# Altium integrated library Analog Devices Data Converters Analog-to-Digital Converters.IntLib: 2400 symbols (part 60 of 338)
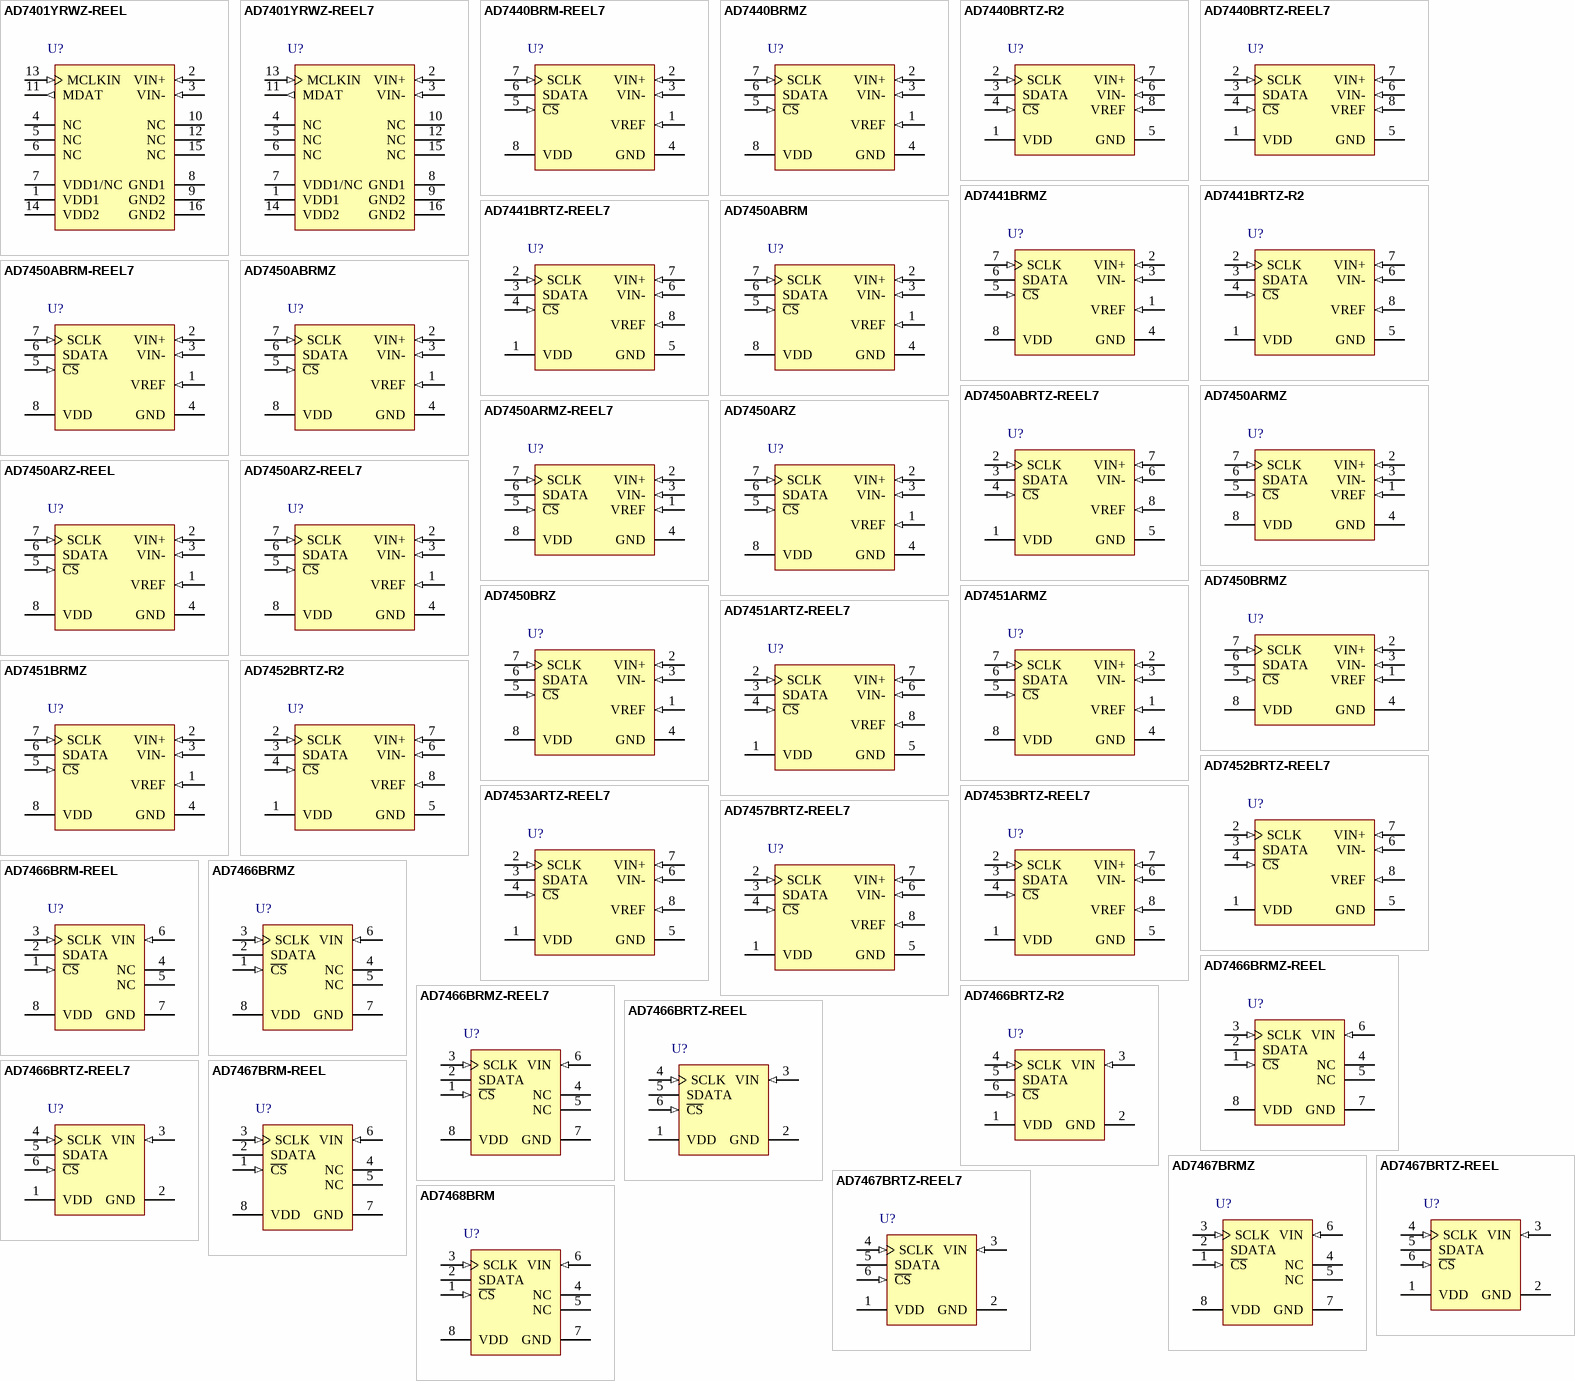
[diagram p189: symbols AD7401YRWZ-REEL to AD7468BRM]

## AD7468BRM
designator U?
Single 8-Bit Analog-to-Digital Converter with Serial, SPI Interface, 200KSPS, 0 to +70 degC, RM-8, Tube; Part Number: AD7468; Manufacturer: Analog Devices; Resolution (Bits): 8; Channels: 1; Throughput Rate (SPS): 200K; Interface: Ser, SPI; DatasheetVersion: Rev.C; PackageVersion: Aug-2005; PackageReference: RM-8; PackageDescription: 8-Lead Mini Small Outline Package [MSOP]; RoHS: N; Packing: Tube; Mounting Technology: Surface Mount; Code_JEDEC: MO-187-AA; ComponentLink1Description: Manufacturer URL; ComponentLink1URL: http://www.analog.com/en/index.html; ComponentLink2Description: Datasheet; ComponentLink2URL: http://www.analog.com/static/imported-files/data_sheets/AD7466_7467_7468.pdf; ComponentLink3Description: Package Specification; ComponentLink3URL: http://www.analog.com/static/imported-files/packages/PKG_PDF/MSOP%28RM%29/RM_8.pdf; ComponentLink4Description: Product URL; ComponentLink4URL: http://www.analog.com/en/analog-to-digital-converters/ad-converters/ad7468/products/product.html
footprint RM-8_N (TSOP, 8-Leads, Body 3x3mm, Pitch 0.65mm, IPC Medium Density)
footprint RM-8_L (TSOP, 8-Leads, Body 3x3mm, Pitch 0.65mm, IPC High Density)
footprint RM-8_M (TSOP, 8-Leads, Body 3x3mm, Pitch 0.65mm, IPC Low Density)
pins: 1 ~{CS} (in) "Chip Select. Active low logic input. This input provides the dual function of initiating conversions on the devices and frames the serial data transfer.", 2 SDATA (hiz) "Data Out. Logic output. The conversion result from the AD7466/AD7467/AD7468 is provided on this output as a serial data stream. The bits are clocked out on the falling edge of the SCLK input. The data stream from the AD7466 (See Datasheet)", 3 SCLK (in) "Serial Clock. Logic input. SCLK provides the serial clock for accessing data from the parts. This clock input is also used as the clock source for the conversion process of the parts.", 4 NC "No Connect.", 5 NC "No Connect.", 6 VIN (in) "Analog Input. Single-ended analog input channel. The input range is 0 V to VDD.", 7 GND (power) "Analog Ground. Ground reference point for all circuitry on the devices. All analog input signals should be referred to this GND voltage.", 8 VDD (power) "Power Supply Input. The VDD range for the devices is from 1.6 V to 3.6 V."

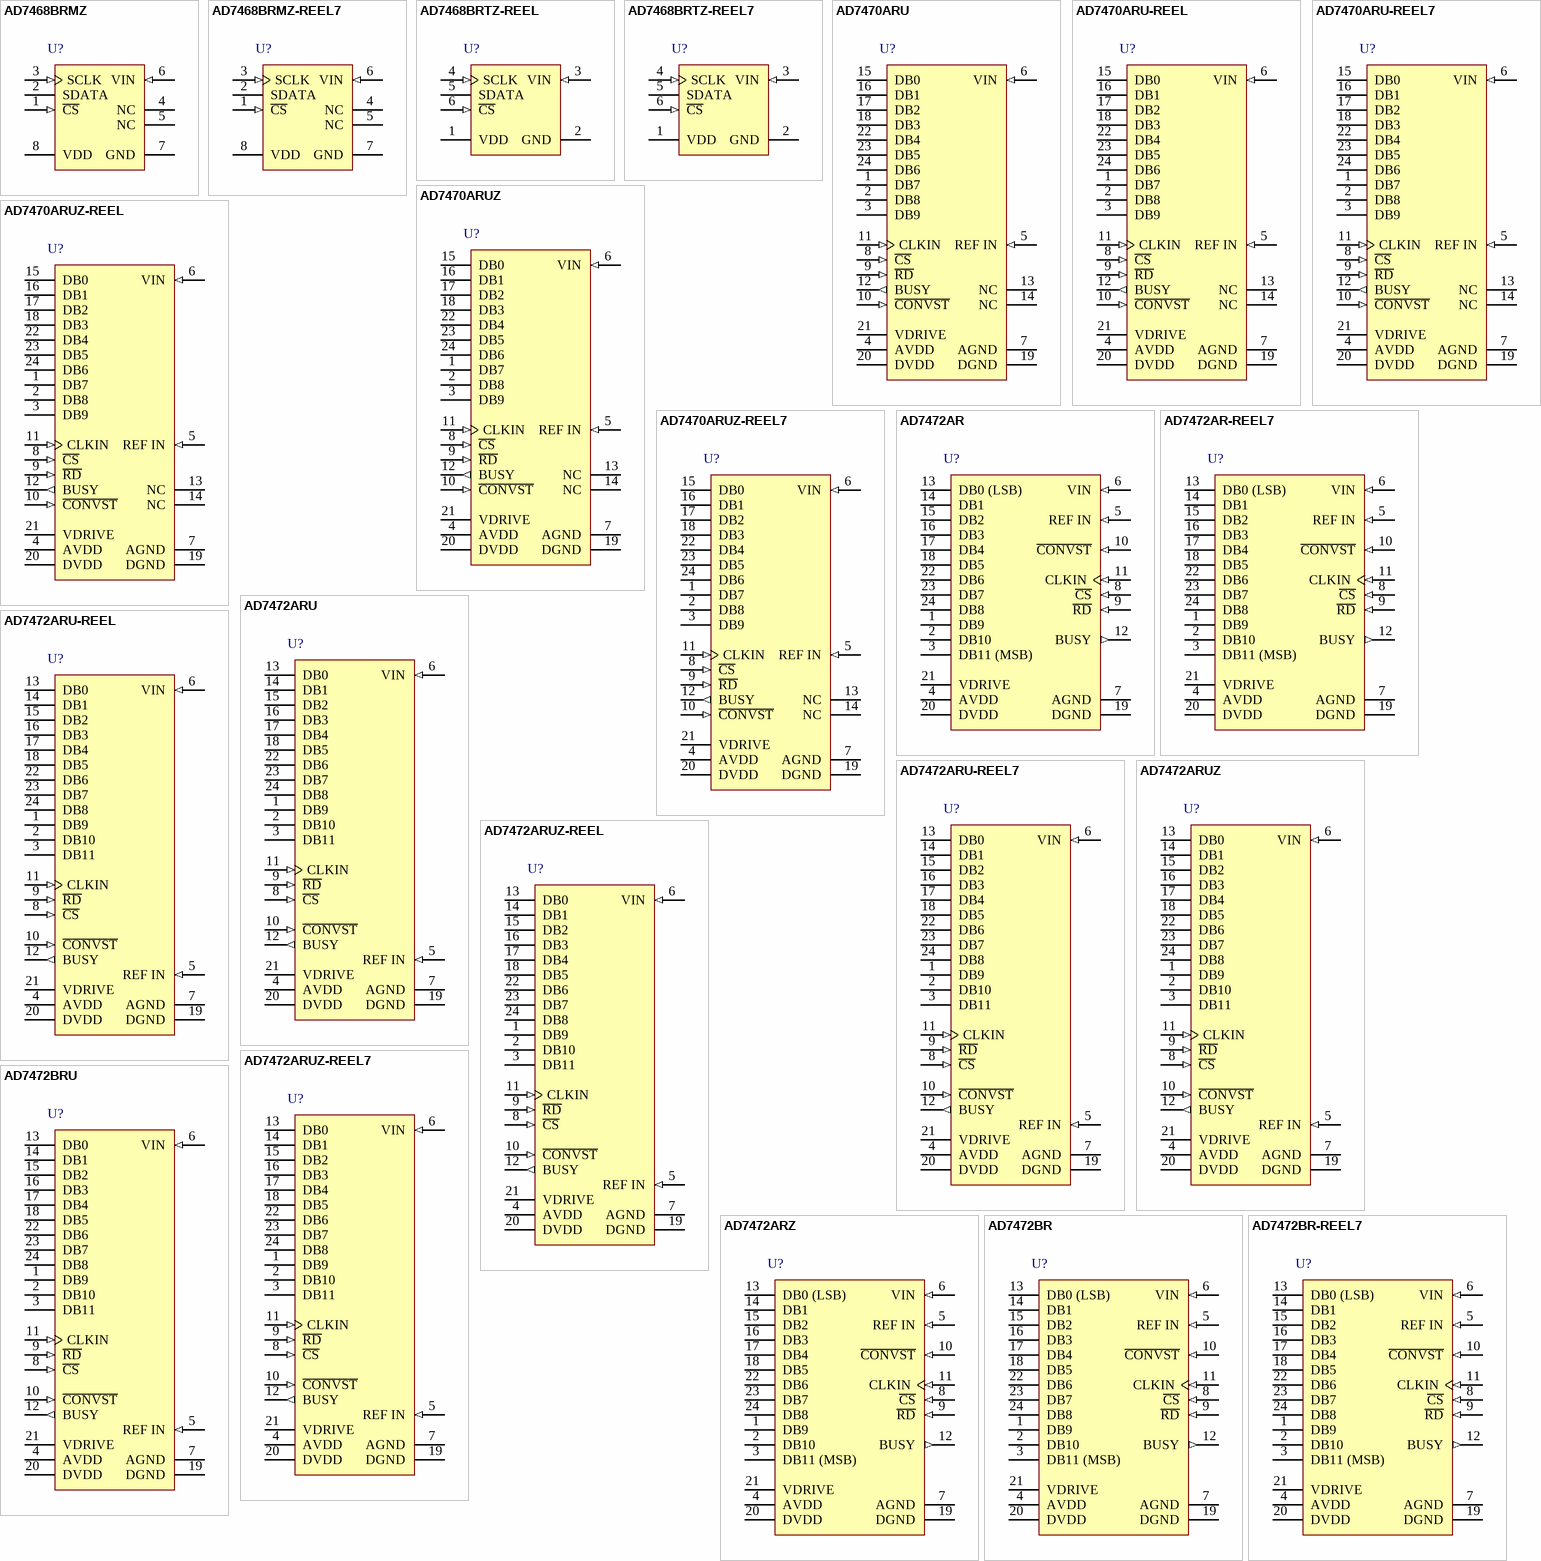
[diagram p23: symbols AD7468BRMZ to AD7472BRU]

## AD7468BRMZ
designator U?
Single 8-Bit Analog-to-Digital Converter with Serial, SPI Interface, 200KSPS, 0 to +70 degC, RM-8, Pb-Free, Tube; Part Number: AD7468; Manufacturer: Analog Devices; Resolution (Bits): 8; Channels: 1; Throughput Rate (SPS): 200K; Interface: Ser, SPI; DatasheetVersion: Rev.C; PackageVersion: Aug-2005; PackageReference: RM-8; PackageDescription: 8-Lead Mini Small Outline Package [MSOP]; RoHS: Y; Packing: Tube; Mounting Technology: Surface Mount; Code_JEDEC: MO-187-AA; ComponentLink1Description: Manufacturer URL; ComponentLink1URL: http://www.analog.com/en/index.html; ComponentLink2Description: Datasheet; ComponentLink2URL: http://www.analog.com/static/imported-files/data_sheets/AD7466_7467_7468.pdf; ComponentLink3Description: Package Specification; ComponentLink3URL: http://www.analog.com/static/imported-files/packages/PKG_PDF/MSOP%28RM%29/RM_8.pdf; ComponentLink4Description: Product URL; ComponentLink4URL: http://www.analog.com/en/analog-to-digital-converters/ad-converters/ad7468/products/product.html
footprint RM-8_N (TSOP, 8-Leads, Body 3x3mm, Pitch 0.65mm, IPC Medium Density)
footprint RM-8_L (TSOP, 8-Leads, Body 3x3mm, Pitch 0.65mm, IPC High Density)
footprint RM-8_M (TSOP, 8-Leads, Body 3x3mm, Pitch 0.65mm, IPC Low Density)
pins: 1 ~{CS} (in) "Chip Select. Active low logic input. This input provides the dual function of initiating conversions on the devices and frames the serial data transfer.", 2 SDATA (hiz) "Data Out. Logic output. The conversion result from the AD7466/AD7467/AD7468 is provided on this output as a serial data stream. The bits are clocked out on the falling edge of the SCLK input. The data stream from the AD7466 (See Datasheet)", 3 SCLK (in) "Serial Clock. Logic input. SCLK provides the serial clock for accessing data from the parts. This clock input is also used as the clock source for the conversion process of the parts.", 4 NC "No Connect.", 5 NC "No Connect.", 6 VIN (in) "Analog Input. Single-ended analog input channel. The input range is 0 V to VDD.", 7 GND (power) "Analog Ground. Ground reference point for all circuitry on the devices. All analog input signals should be referred to this GND voltage.", 8 VDD (power) "Power Supply Input. The VDD range for the devices is from 1.6 V to 3.6 V."

## AD7468BRMZ-REEL7
designator U?
Single 8-Bit Analog-to-Digital Converter with Serial, SPI Interface, 200KSPS, 0 to +70 degC, RM-8, Pb-Free, Reel; Part Number: AD7468; Manufacturer: Analog Devices; Resolution (Bits): 8; Channels: 1; Throughput Rate (SPS): 200K; Interface: Ser, SPI; DatasheetVersion: Rev.C; PackageVersion: Aug-2005; PackageReference: RM-8; PackageDescription: 8-Lead Mini Small Outline Package [MSOP]; RoHS: Y; Packing: Reel; Mounting Technology: Surface Mount; Code_JEDEC: MO-187-AA; ComponentLink1Description: Manufacturer URL; ComponentLink1URL: http://www.analog.com/en/index.html; ComponentLink2Description: Datasheet; ComponentLink2URL: http://www.analog.com/static/imported-files/data_sheets/AD7466_7467_7468.pdf; ComponentLink3Description: Package Specification; ComponentLink3URL: http://www.analog.com/static/imported-files/packages/PKG_PDF/MSOP%28RM%29/RM_8.pdf; ComponentLink4Description: Product URL; ComponentLink4URL: http://www.analog.com/en/analog-to-digital-converters/ad-converters/ad7468/products/product.html
footprint RM-8_N (TSOP, 8-Leads, Body 3x3mm, Pitch 0.65mm, IPC Medium Density)
footprint RM-8_L (TSOP, 8-Leads, Body 3x3mm, Pitch 0.65mm, IPC High Density)
footprint RM-8_M (TSOP, 8-Leads, Body 3x3mm, Pitch 0.65mm, IPC Low Density)
pins: 1 ~{CS} (in) "Chip Select. Active low logic input. This input provides the dual function of initiating conversions on the devices and frames the serial data transfer.", 2 SDATA (hiz) "Data Out. Logic output. The conversion result from the AD7466/AD7467/AD7468 is provided on this output as a serial data stream. The bits are clocked out on the falling edge of the SCLK input. The data stream from the AD7466 (See Datasheet)", 3 SCLK (in) "Serial Clock. Logic input. SCLK provides the serial clock for accessing data from the parts. This clock input is also used as the clock source for the conversion process of the parts.", 4 NC "No Connect.", 5 NC "No Connect.", 6 VIN (in) "Analog Input. Single-ended analog input channel. The input range is 0 V to VDD.", 7 GND (power) "Analog Ground. Ground reference point for all circuitry on the devices. All analog input signals should be referred to this GND voltage.", 8 VDD (power) "Power Supply Input. The VDD range for the devices is from 1.6 V to 3.6 V."

## AD7468BRTZ-REEL
designator U?
Single 8-Bit Analog-to-Digital Converter with Serial, SPI Interface, 200KSPS, 0 to +70 degC, RJ-6, Pb-Free, Reel; Part Number: AD7468; Manufacturer: Analog Devices; Resolution (Bits): 8; Channels: 1; Throughput Rate (SPS): 200K; Interface: Ser, SPI; DatasheetVersion: Rev.C; PackageVersion: 121608-A; PackageReference: RJ-6; PackageDescription: 6-Lead Small Outline Transistor Package [SOT-23]; RoHS: Y; Packing: Reel; Mounting Technology: Surface Mount; Code_JEDEC: MO-178-AB; ComponentLink1Description: Manufacturer URL; ComponentLink1URL: http://www.analog.com/en/index.html; ComponentLink2Description: Datasheet; ComponentLink2URL: http://www.analog.com/static/imported-files/data_sheets/AD7466_7467_7468.pdf; ComponentLink3Description: Package Specification; ComponentLink3URL: http://www.analog.com/static/imported-files/packages/PKG_PDF/SOT-23(RJ)/RJ_6.pdf; ComponentLink4Description: Product URL; ComponentLink4URL: http://www.analog.com/en/analog-to-digital-converters/ad-converters/ad7468/products/product.html
footprint RJ-6_N (SOT23, 6-Leads, Body 2.9x1.6mm, Pitch 0.95mm, Lead Span 2.8mm, IPC Medium Density)
footprint RJ-6_L (SOT23, 6-Leads, Body 2.9x1.6mm, Pitch 0.95mm, Lead Span 2.8mm, IPC High Density)
footprint RJ-6_M (SOT23, 6-Leads, Body 2.9x1.6mm, Pitch 0.95mm, Lead Span 2.8mm, IPC Low Density)
pins: 1 VDD (power) "Power Supply Input. The VDD range for the AD7276/AD7277/AD7278 is 2.35 V to 3.6 V.", 2 GND (power) "Analog Ground. Ground reference point for all circuitry on the AD7276/AD7277/AD7278. All analog input signals should be referred to this GND voltage.", 3 VIN (in) "Analog Input. Single-ended analog input channel. The input range is 0 V to VDD.", 4 SCLK (in) "Serial Clock. Logic input. SCLK provides the serial clock for accessing data from the part. This clock input is also used as the clock source for the conversion process of the AD7276/AD7277/AD7278.", 5 SDATA (hiz) "Data Out. Logic output. The conversion result from the AD7276/AD7277/AD7278 is provided on this output as a serial data stream. The bits are clocked out on the falling edge of the SCLK input. The data stream from the AD7276 (See Datasheet)", 6 ~{CS} (in) "Chip Select. Active low logic input. This input provides the dual function of initiating conversion on the AD7276/AD7277/AD7278 and framing the serial data transfer."

## AD7468BRTZ-REEL7
designator U?
Single 8-Bit Analog-to-Digital Converter with Serial, SPI Interface, 200KSPS, 0 to +70 degC, RJ-6, Pb-Free, Reel; Part Number: AD7468; Manufacturer: Analog Devices; Resolution (Bits): 8; Channels: 1; Throughput Rate (SPS): 200K; Interface: Ser, SPI; DatasheetVersion: Rev.C; PackageVersion: 121608-A; PackageReference: RJ-6; PackageDescription: 6-Lead Small Outline Transistor Package [SOT-23]; RoHS: Y; Packing: Reel; Mounting Technology: Surface Mount; Code_JEDEC: MO-178-AB; ComponentLink1Description: Manufacturer URL; ComponentLink1URL: http://www.analog.com/en/index.html; ComponentLink2Description: Datasheet; ComponentLink2URL: http://www.analog.com/static/imported-files/data_sheets/AD7466_7467_7468.pdf; ComponentLink3Description: Package Specification; ComponentLink3URL: http://www.analog.com/static/imported-files/packages/PKG_PDF/SOT-23(RJ)/RJ_6.pdf; ComponentLink4Description: Product URL; ComponentLink4URL: http://www.analog.com/en/analog-to-digital-converters/ad-converters/ad7468/products/product.html
footprint RJ-6_N (SOT23, 6-Leads, Body 2.9x1.6mm, Pitch 0.95mm, Lead Span 2.8mm, IPC Medium Density)
footprint RJ-6_L (SOT23, 6-Leads, Body 2.9x1.6mm, Pitch 0.95mm, Lead Span 2.8mm, IPC High Density)
footprint RJ-6_M (SOT23, 6-Leads, Body 2.9x1.6mm, Pitch 0.95mm, Lead Span 2.8mm, IPC Low Density)
pins: 1 VDD (power) "Power Supply Input. The VDD range for the AD7276/AD7277/AD7278 is 2.35 V to 3.6 V.", 2 GND (power) "Analog Ground. Ground reference point for all circuitry on the AD7276/AD7277/AD7278. All analog input signals should be referred to this GND voltage.", 3 VIN (in) "Analog Input. Single-ended analog input channel. The input range is 0 V to VDD.", 4 SCLK (in) "Serial Clock. Logic input. SCLK provides the serial clock for accessing data from the part. This clock input is also used as the clock source for the conversion process of the AD7276/AD7277/AD7278.", 5 SDATA (hiz) "Data Out. Logic output. The conversion result from the AD7276/AD7277/AD7278 is provided on this output as a serial data stream. The bits are clocked out on the falling edge of the SCLK input. The data stream from the AD7276 (See Datasheet)", 6 ~{CS} (in) "Chip Select. Active low logic input. This input provides the dual function of initiating conversion on the AD7276/AD7277/AD7278 and framing the serial data transfer."

## AD7470ARU
designator U?
Single 10-Bit Analog-to-Digital Converter with Parallel Interface, 4 mW, 1.75MSPS, -40 to +85 degC, RU-24, Tube; Part Number: AD7470; Manufacturer: Analog Devices; Resolution (Bits): 10; Channels: 1; Throughput Rate (SPS): 1.75M; Interface: Par; DatasheetVersion: Rev.B; PackageVersion: 2002; PackageReference: RU-24; PackageDescription: 24-Lead Thin Shrink Small Outline Package [TSSOP]; RoHS: N; Packing: Tube; Mounting Technology: Surface Mount; Code_JEDEC: MO-153-AD; ComponentLink1Description: Manufacturer URL; ComponentLink1URL: http://www.analog.com/en/index.html; ComponentLink2Description: Datasheet; ComponentLink2URL: http://www.analog.com/static/imported-files/data_sheets/AD7470_7472.pdf; ComponentLink3Description: Package Specification; ComponentLink3URL: http://www.analog.com/static/imported-files/packages/380523655245964505593671154107510036154RU24.pdf; ComponentLink4Description: Product URL; ComponentLink4URL: http://www.analog.com/en/analog-to-digital-converters/ad-converters/ad7470/products/product.html
footprint RU-24_N (TSOP, 24-Leads, Body 7.8x4.4mm, Pitch 0.65mm, IPC Medium Density)
footprint RU-24_L (TSOP, 24-Leads, Body 7.8x4.4mm, Pitch 0.65mm, IPC High Density)
footprint RU-24_M (TSOP, 24-Leads, Body 7.8x4.4mm, Pitch 0.65mm, IPC Low Density)
pins: 1 DB7 (hiz) "Parallel digital outputs that provide the conversion result for the part. These are three-state outputs that are controlled by C\S\ and R\D\. The output high voltage level for these outputs is determined by the VDRIVE input.", 2 DB8 (hiz) "Parallel digital outputs that provide the conversion result for the part. These are three-state outputs that are controlled by C\S\ and R\D\. The output high voltage level for these outputs is determined by the VDRIVE input.", 3 DB9 (hiz) "Parallel digital outputs that provide the conversion result for the part. These are three-state outputs that are controlled by C\S\ and R\D\. The output high voltage level for these outputs is determined by the VDRIVE input.", 4 AVDD (power) "Analog Supply Voltage, 2.7 V to 5.25 V. This is the only supply voltage for all analog circuitry on the AD7472. The AVDD and DVDD voltages should ideally be at the same potential and must not be more than 0.3 V apart even on (See Datasheet)", 5 REF IN (in) "Reference Input. An external reference must be applied to this input. The voltage range for the external reference is 2.5 V +/-1% for specified performance.", 6 VIN (in) "Analog Input. Single-ended analog input channel. The input range is 0 V to REF IN. The analog input presents a high dc input impedance.", 7 AGND (power) "Analog Ground. Ground reference point for all analog circuitry on the AD7470/AD7472. All analog input signals and any external reference signal should be referred to this AGND voltage. The AGND and DGND voltages should (See Datasheet)", 8 ~{CS} (in) "Chip Select. Active low logic input used in conjunction with R\D\ to access the conversion result. The conversion result is placed on the data bus following the falling edge of both C\S\ and R\D\. C\S\ and R\D\ are both (See Datasheet)", 9 ~{RD} (in) "Read Input. Logic input used in conjunction with C\S\ to access the conversion result. The conversion result is placed on the data bus following the falling edge of both C\S\ and R\D\. C\S\ and R\D\ are both connected to (See Datasheet)", 10 ~{CONVST} (in) "Conversion Start Input. Logic input used to initiate conversion. The input track-and-hold amplifier goes from track mode to hold mode on the falling edge of C\O\N\V\S\T\, and the conversion process is initiated at this point.(See Datasheet)", 11 CLKIN (in) "Master Clock Input. The clock source for the conversion process is applied to this pin. Conversion time for the AD7472 takes 14 clock cycles, and conversion time for the AD7470 takes 12 clock cycles. The frequency of this (See Datasheet)", 12 BUSY (out) "BUSY Output. Logic output indicating the status of the conversion process. The BUSY signal goes high after the falling edge of C\O\N\V\S\T\ and stays high for the duration of conversion. Once conversion is complete and the (See Datasheet)", 13 NC "No connect", 14 NC "No connect", 15 DB0 (hiz) "Parallel digital outputs that provide the conversion result for the part. These are three-state outputs that are controlled by C\S\ and R\D\. The output high voltage level for these outputs is determined by the VDRIVE input.", 16 DB1 (hiz) "Parallel digital outputs that provide the conversion result for the part. These are three-state outputs that are controlled by C\S\ and R\D\. The output high voltage level for these outputs is determined by the VDRIVE input.", 17 DB2 (hiz) "Parallel digital outputs that provide the conversion result for the part. These are three-state outputs that are controlled by C\S\ and R\D\. The output high voltage level for these outputs is determined by the VDRIVE input.", 18 DB3 (hiz) "Parallel digital outputs that provide the conversion result for the part. These are three-state outputs that are controlled by C\S\ and R\D\. The output high voltage level for these outputs is determined by the VDRIVE input.", 19 DGND (power) "Digital Ground. This is the ground reference point for all digital circuitry on the AD7470 and AD7472. The DGND and AGND voltages should ideally be at the same potential and must not be more than 0.3 V apart even on a (See Datasheet)", 20 DVDD (power) "Digital Supply Voltage, 2.7 V to 5.25 V. This is the supply voltage for all digital circuitry on the AD7470/ AD7472 aside from the output drivers. The DVDD and AVDD voltages should ideally be at the same potential and must (See Datasheet)", 21 VDRIVE (power) "Supply Voltage for the Output Drivers, 2.7 V to 5.25 V. This voltage determines the output high voltage for the data output pins. It allows AVDD and DVDD to operate at 5 V (and maximize the dynamic performance of the (ADC), (See Datasheet)", 22 DB4 (hiz) "Parallel digital outputs that provide the conversion result for the part. These are three-state outputs that are controlled by C\S\ and R\D\. The output high voltage level for these outputs is determined by the VDRIVE input.", 23 DB5 (hiz) "Parallel digital outputs that provide the conversion result for the part. These are three-state outputs that are controlled by C\S\ and R\D\. The output high voltage level for these outputs is determined by the VDRIVE input.", 24 DB6 (hiz) "Parallel digital outputs that provide the conversion result for the part. These are three-state outputs that are controlled by C\S\ and R\D\. The output high voltage level for these outputs is determined by the VDRIVE input."

## AD7470ARU-REEL
designator U?
Single 10-Bit Analog-to-Digital Converter with Parallel Interface, 4 mW, 1.75MSPS, -40 to +85 degC, RU-24, Reel; Part Number: AD7470; Manufacturer: Analog Devices; Resolution (Bits): 10; Channels: 1; Throughput Rate (SPS): 1.75M; Interface: Par; DatasheetVersion: Rev.B; PackageVersion: 2002; PackageReference: RU-24; PackageDescription: 24-Lead Thin Shrink Small Outline Package [TSSOP]; RoHS: N; Packing: Reel; Mounting Technology: Surface Mount; Code_JEDEC: MO-153-AD; ComponentLink1Description: Manufacturer URL; ComponentLink1URL: http://www.analog.com/en/index.html; ComponentLink2Description: Datasheet; ComponentLink2URL: http://www.analog.com/static/imported-files/data_sheets/AD7470_7472.pdf; ComponentLink3Description: Package Specification; ComponentLink3URL: http://www.analog.com/static/imported-files/packages/380523655245964505593671154107510036154RU24.pdf; ComponentLink4Description: Product URL; ComponentLink4URL: http://www.analog.com/en/analog-to-digital-converters/ad-converters/ad7470/products/product.html
footprint RU-24_N (TSOP, 24-Leads, Body 7.8x4.4mm, Pitch 0.65mm, IPC Medium Density)
footprint RU-24_L (TSOP, 24-Leads, Body 7.8x4.4mm, Pitch 0.65mm, IPC High Density)
footprint RU-24_M (TSOP, 24-Leads, Body 7.8x4.4mm, Pitch 0.65mm, IPC Low Density)
pins: 1 DB7 (hiz) "Parallel digital outputs that provide the conversion result for the part. These are three-state outputs that are controlled by C\S\ and R\D\. The output high voltage level for these outputs is determined by the VDRIVE input.", 2 DB8 (hiz) "Parallel digital outputs that provide the conversion result for the part. These are three-state outputs that are controlled by C\S\ and R\D\. The output high voltage level for these outputs is determined by the VDRIVE input.", 3 DB9 (hiz) "Parallel digital outputs that provide the conversion result for the part. These are three-state outputs that are controlled by C\S\ and R\D\. The output high voltage level for these outputs is determined by the VDRIVE input.", 4 AVDD (power) "Analog Supply Voltage, 2.7 V to 5.25 V. This is the only supply voltage for all analog circuitry on the AD7472. The AVDD and DVDD voltages should ideally be at the same potential and must not be more than 0.3 V apart even on (See Datasheet)", 5 REF IN (in) "Reference Input. An external reference must be applied to this input. The voltage range for the external reference is 2.5 V +/-1% for specified performance.", 6 VIN (in) "Analog Input. Single-ended analog input channel. The input range is 0 V to REF IN. The analog input presents a high dc input impedance.", 7 AGND (power) "Analog Ground. Ground reference point for all analog circuitry on the AD7470/AD7472. All analog input signals and any external reference signal should be referred to this AGND voltage. The AGND and DGND voltages should (See Datasheet)", 8 ~{CS} (in) "Chip Select. Active low logic input used in conjunction with R\D\ to access the conversion result. The conversion result is placed on the data bus following the falling edge of both C\S\ and R\D\. C\S\ and R\D\ are both (See Datasheet)", 9 ~{RD} (in) "Read Input. Logic input used in conjunction with C\S\ to access the conversion result. The conversion result is placed on the data bus following the falling edge of both C\S\ and R\D\. C\S\ and R\D\ are both connected to (See Datasheet)", 10 ~{CONVST} (in) "Conversion Start Input. Logic input used to initiate conversion. The input track-and-hold amplifier goes from track mode to hold mode on the falling edge of C\O\N\V\S\T\, and the conversion process is initiated at this point.(See Datasheet)", 11 CLKIN (in) "Master Clock Input. The clock source for the conversion process is applied to this pin. Conversion time for the AD7472 takes 14 clock cycles, and conversion time for the AD7470 takes 12 clock cycles. The frequency of this (See Datasheet)", 12 BUSY (out) "BUSY Output. Logic output indicating the status of the conversion process. The BUSY signal goes high after the falling edge of C\O\N\V\S\T\ and stays high for the duration of conversion. Once conversion is complete and the (See Datasheet)", 13 NC "No connect", 14 NC "No connect", 15 DB0 (hiz) "Parallel digital outputs that provide the conversion result for the part. These are three-state outputs that are controlled by C\S\ and R\D\. The output high voltage level for these outputs is determined by the VDRIVE input.", 16 DB1 (hiz) "Parallel digital outputs that provide the conversion result for the part. These are three-state outputs that are controlled by C\S\ and R\D\. The output high voltage level for these outputs is determined by the VDRIVE input.", 17 DB2 (hiz) "Parallel digital outputs that provide the conversion result for the part. These are three-state outputs that are controlled by C\S\ and R\D\. The output high voltage level for these outputs is determined by the VDRIVE input.", 18 DB3 (hiz) "Parallel digital outputs that provide the conversion result for the part. These are three-state outputs that are controlled by C\S\ and R\D\. The output high voltage level for these outputs is determined by the VDRIVE input.", 19 DGND (power) "Digital Ground. This is the ground reference point for all digital circuitry on the AD7470 and AD7472. The DGND and AGND voltages should ideally be at the same potential and must not be more than 0.3 V apart even on a (See Datasheet)", 20 DVDD (power) "Digital Supply Voltage, 2.7 V to 5.25 V. This is the supply voltage for all digital circuitry on the AD7470/ AD7472 aside from the output drivers. The DVDD and AVDD voltages should ideally be at the same potential and must (See Datasheet)", 21 VDRIVE (power) "Supply Voltage for the Output Drivers, 2.7 V to 5.25 V. This voltage determines the output high voltage for the data output pins. It allows AVDD and DVDD to operate at 5 V (and maximize the dynamic performance of the (ADC), (See Datasheet)", 22 DB4 (hiz) "Parallel digital outputs that provide the conversion result for the part. These are three-state outputs that are controlled by C\S\ and R\D\. The output high voltage level for these outputs is determined by the VDRIVE input.", 23 DB5 (hiz) "Parallel digital outputs that provide the conversion result for the part. These are three-state outputs that are controlled by C\S\ and R\D\. The output high voltage level for these outputs is determined by the VDRIVE input.", 24 DB6 (hiz) "Parallel digital outputs that provide the conversion result for the part. These are three-state outputs that are controlled by C\S\ and R\D\. The output high voltage level for these outputs is determined by the VDRIVE input."

## AD7470ARU-REEL7
designator U?
Single 10-Bit Analog-to-Digital Converter with Parallel Interface, 4 mW, 1.75MSPS, -40 to +85 degC, RU-24, Reel; Part Number: AD7470; Manufacturer: Analog Devices; Resolution (Bits): 10; Channels: 1; Throughput Rate (SPS): 1.75M; Interface: Par; DatasheetVersion: Rev.B; PackageVersion: 2002; PackageReference: RU-24; PackageDescription: 24-Lead Thin Shrink Small Outline Package [TSSOP]; RoHS: N; Packing: Reel; Mounting Technology: Surface Mount; Code_JEDEC: MO-153-AD; ComponentLink1Description: Manufacturer URL; ComponentLink1URL: http://www.analog.com/en/index.html; ComponentLink2Description: Datasheet; ComponentLink2URL: http://www.analog.com/static/imported-files/data_sheets/AD7470_7472.pdf; ComponentLink3Description: Package Specification; ComponentLink3URL: http://www.analog.com/static/imported-files/packages/380523655245964505593671154107510036154RU24.pdf; ComponentLink4Description: Product URL; ComponentLink4URL: http://www.analog.com/en/analog-to-digital-converters/ad-converters/ad7470/products/product.html
footprint RU-24_N (TSOP, 24-Leads, Body 7.8x4.4mm, Pitch 0.65mm, IPC Medium Density)
footprint RU-24_L (TSOP, 24-Leads, Body 7.8x4.4mm, Pitch 0.65mm, IPC High Density)
footprint RU-24_M (TSOP, 24-Leads, Body 7.8x4.4mm, Pitch 0.65mm, IPC Low Density)
pins: 1 DB7 (hiz) "Parallel digital outputs that provide the conversion result for the part. These are three-state outputs that are controlled by C\S\ and R\D\. The output high voltage level for these outputs is determined by the VDRIVE input.", 2 DB8 (hiz) "Parallel digital outputs that provide the conversion result for the part. These are three-state outputs that are controlled by C\S\ and R\D\. The output high voltage level for these outputs is determined by the VDRIVE input.", 3 DB9 (hiz) "Parallel digital outputs that provide the conversion result for the part. These are three-state outputs that are controlled by C\S\ and R\D\. The output high voltage level for these outputs is determined by the VDRIVE input.", 4 AVDD (power) "Analog Supply Voltage, 2.7 V to 5.25 V. This is the only supply voltage for all analog circuitry on the AD7472. The AVDD and DVDD voltages should ideally be at the same potential and must not be more than 0.3 V apart even on (See Datasheet)", 5 REF IN (in) "Reference Input. An external reference must be applied to this input. The voltage range for the external reference is 2.5 V +/-1% for specified performance.", 6 VIN (in) "Analog Input. Single-ended analog input channel. The input range is 0 V to REF IN. The analog input presents a high dc input impedance.", 7 AGND (power) "Analog Ground. Ground reference point for all analog circuitry on the AD7470/AD7472. All analog input signals and any external reference signal should be referred to this AGND voltage. The AGND and DGND voltages should (See Datasheet)", 8 ~{CS} (in) "Chip Select. Active low logic input used in conjunction with R\D\ to access the conversion result. The conversion result is placed on the data bus following the falling edge of both C\S\ and R\D\. C\S\ and R\D\ are both (See Datasheet)", 9 ~{RD} (in) "Read Input. Logic input used in conjunction with C\S\ to access the conversion result. The conversion result is placed on the data bus following the falling edge of both C\S\ and R\D\. C\S\ and R\D\ are both connected to (See Datasheet)", 10 ~{CONVST} (in) "Conversion Start Input. Logic input used to initiate conversion. The input track-and-hold amplifier goes from track mode to hold mode on the falling edge of C\O\N\V\S\T\, and the conversion process is initiated at this point.(See Datasheet)", 11 CLKIN (in) "Master Clock Input. The clock source for the conversion process is applied to this pin. Conversion time for the AD7472 takes 14 clock cycles, and conversion time for the AD7470 takes 12 clock cycles. The frequency of this (See Datasheet)", 12 BUSY (out) "BUSY Output. Logic output indicating the status of the conversion process. The BUSY signal goes high after the falling edge of C\O\N\V\S\T\ and stays high for the duration of conversion. Once conversion is complete and the (See Datasheet)", 13 NC "No connect", 14 NC "No connect", 15 DB0 (hiz) "Parallel digital outputs that provide the conversion result for the part. These are three-state outputs that are controlled by C\S\ and R\D\. The output high voltage level for these outputs is determined by the VDRIVE input.", 16 DB1 (hiz) "Parallel digital outputs that provide the conversion result for the part. These are three-state outputs that are controlled by C\S\ and R\D\. The output high voltage level for these outputs is determined by the VDRIVE input.", 17 DB2 (hiz) "Parallel digital outputs that provide the conversion result for the part. These are three-state outputs that are controlled by C\S\ and R\D\. The output high voltage level for these outputs is determined by the VDRIVE input.", 18 DB3 (hiz) "Parallel digital outputs that provide the conversion result for the part. These are three-state outputs that are controlled by C\S\ and R\D\. The output high voltage level for these outputs is determined by the VDRIVE input.", 19 DGND (power) "Digital Ground. This is the ground reference point for all digital circuitry on the AD7470 and AD7472. The DGND and AGND voltages should ideally be at the same potential and must not be more than 0.3 V apart even on a (See Datasheet)", 20 DVDD (power) "Digital Supply Voltage, 2.7 V to 5.25 V. This is the supply voltage for all digital circuitry on the AD7470/ AD7472 aside from the output drivers. The DVDD and AVDD voltages should ideally be at the same potential and must (See Datasheet)", 21 VDRIVE (power) "Supply Voltage for the Output Drivers, 2.7 V to 5.25 V. This voltage determines the output high voltage for the data output pins. It allows AVDD and DVDD to operate at 5 V (and maximize the dynamic performance of the (ADC), (See Datasheet)", 22 DB4 (hiz) "Parallel digital outputs that provide the conversion result for the part. These are three-state outputs that are controlled by C\S\ and R\D\. The output high voltage level for these outputs is determined by the VDRIVE input.", 23 DB5 (hiz) "Parallel digital outputs that provide the conversion result for the part. These are three-state outputs that are controlled by C\S\ and R\D\. The output high voltage level for these outputs is determined by the VDRIVE input.", 24 DB6 (hiz) "Parallel digital outputs that provide the conversion result for the part. These are three-state outputs that are controlled by C\S\ and R\D\. The output high voltage level for these outputs is determined by the VDRIVE input."

## AD7470ARUZ
designator U?
Single 10-Bit Analog-to-Digital Converter with Parallel Interface, 4 mW, 1.75MSPS, -40 to +85 degC, RU-24, Pb-Free, Tube; Part Number: AD7470; Manufacturer: Analog Devices; Resolution (Bits): 10; Channels: 1; Throughput Rate (SPS): 1.75M; Interface: Par; DatasheetVersion: Rev.B; PackageVersion: 2002; PackageReference: RU-24; PackageDescription: 24-Lead Thin Shrink Small Outline Package [TSSOP]; RoHS: Y; Packing: Tube; Mounting Technology: Surface Mount; Code_JEDEC: MO-153-AD; ComponentLink1Description: Manufacturer URL; ComponentLink1URL: http://www.analog.com/en/index.html; ComponentLink2Description: Datasheet; ComponentLink2URL: http://www.analog.com/static/imported-files/data_sheets/AD7470_7472.pdf; ComponentLink3Description: Package Specification; ComponentLink3URL: http://www.analog.com/static/imported-files/packages/380523655245964505593671154107510036154RU24.pdf; ComponentLink4Description: Product URL; ComponentLink4URL: http://www.analog.com/en/analog-to-digital-converters/ad-converters/ad7470/products/product.html
footprint RU-24_N (TSOP, 24-Leads, Body 7.8x4.4mm, Pitch 0.65mm, IPC Medium Density)
footprint RU-24_L (TSOP, 24-Leads, Body 7.8x4.4mm, Pitch 0.65mm, IPC High Density)
footprint RU-24_M (TSOP, 24-Leads, Body 7.8x4.4mm, Pitch 0.65mm, IPC Low Density)
pins: 1 DB7 (hiz) "Parallel digital outputs that provide the conversion result for the part. These are three-state outputs that are controlled by C\S\ and R\D\. The output high voltage level for these outputs is determined by the VDRIVE input.", 2 DB8 (hiz) "Parallel digital outputs that provide the conversion result for the part. These are three-state outputs that are controlled by C\S\ and R\D\. The output high voltage level for these outputs is determined by the VDRIVE input.", 3 DB9 (hiz) "Parallel digital outputs that provide the conversion result for the part. These are three-state outputs that are controlled by C\S\ and R\D\. The output high voltage level for these outputs is determined by the VDRIVE input.", 4 AVDD (power) "Analog Supply Voltage, 2.7 V to 5.25 V. This is the only supply voltage for all analog circuitry on the AD7472. The AVDD and DVDD voltages should ideally be at the same potential and must not be more than 0.3 V apart even on (See Datasheet)", 5 REF IN (in) "Reference Input. An external reference must be applied to this input. The voltage range for the external reference is 2.5 V +/-1% for specified performance.", 6 VIN (in) "Analog Input. Single-ended analog input channel. The input range is 0 V to REF IN. The analog input presents a high dc input impedance.", 7 AGND (power) "Analog Ground. Ground reference point for all analog circuitry on the AD7470/AD7472. All analog input signals and any external reference signal should be referred to this AGND voltage. The AGND and DGND voltages should (See Datasheet)", 8 ~{CS} (in) "Chip Select. Active low logic input used in conjunction with R\D\ to access the conversion result. The conversion result is placed on the data bus following the falling edge of both C\S\ and R\D\. C\S\ and R\D\ are both (See Datasheet)", 9 ~{RD} (in) "Read Input. Logic input used in conjunction with C\S\ to access the conversion result. The conversion result is placed on the data bus following the falling edge of both C\S\ and R\D\. C\S\ and R\D\ are both connected to (See Datasheet)", 10 ~{CONVST} (in) "Conversion Start Input. Logic input used to initiate conversion. The input track-and-hold amplifier goes from track mode to hold mode on the falling edge of C\O\N\V\S\T\, and the conversion process is initiated at this point.(See Datasheet)", 11 CLKIN (in) "Master Clock Input. The clock source for the conversion process is applied to this pin. Conversion time for the AD7472 takes 14 clock cycles, and conversion time for the AD7470 takes 12 clock cycles. The frequency of this (See Datasheet)", 12 BUSY (out) "BUSY Output. Logic output indicating the status of the conversion process. The BUSY signal goes high after the falling edge of C\O\N\V\S\T\ and stays high for the duration of conversion. Once conversion is complete and the (See Datasheet)", 13 NC "No connect", 14 NC "No connect", 15 DB0 (hiz) "Parallel digital outputs that provide the conversion result for the part. These are three-state outputs that are controlled by C\S\ and R\D\. The output high voltage level for these outputs is determined by the VDRIVE input.", 16 DB1 (hiz) "Parallel digital outputs that provide the conversion result for the part. These are three-state outputs that are controlled by C\S\ and R\D\. The output high voltage level for these outputs is determined by the VDRIVE input.", 17 DB2 (hiz) "Parallel digital outputs that provide the conversion result for the part. These are three-state outputs that are controlled by C\S\ and R\D\. The output high voltage level for these outputs is determined by the VDRIVE input.", 18 DB3 (hiz) "Parallel digital outputs that provide the conversion result for the part. These are three-state outputs that are controlled by C\S\ and R\D\. The output high voltage level for these outputs is determined by the VDRIVE input.", 19 DGND (power) "Digital Ground. This is the ground reference point for all digital circuitry on the AD7470 and AD7472. The DGND and AGND voltages should ideally be at the same potential and must not be more than 0.3 V apart even on a (See Datasheet)", 20 DVDD (power) "Digital Supply Voltage, 2.7 V to 5.25 V. This is the supply voltage for all digital circuitry on the AD7470/ AD7472 aside from the output drivers. The DVDD and AVDD voltages should ideally be at the same potential and must (See Datasheet)", 21 VDRIVE (power) "Supply Voltage for the Output Drivers, 2.7 V to 5.25 V. This voltage determines the output high voltage for the data output pins. It allows AVDD and DVDD to operate at 5 V (and maximize the dynamic performance of the (ADC), (See Datasheet)", 22 DB4 (hiz) "Parallel digital outputs that provide the conversion result for the part. These are three-state outputs that are controlled by C\S\ and R\D\. The output high voltage level for these outputs is determined by the VDRIVE input.", 23 DB5 (hiz) "Parallel digital outputs that provide the conversion result for the part. These are three-state outputs that are controlled by C\S\ and R\D\. The output high voltage level for these outputs is determined by the VDRIVE input.", 24 DB6 (hiz) "Parallel digital outputs that provide the conversion result for the part. These are three-state outputs that are controlled by C\S\ and R\D\. The output high voltage level for these outputs is determined by the VDRIVE input."

## AD7470ARUZ-REEL
designator U?
Single 10-Bit Analog-to-Digital Converter with Parallel Interface, 4 mW, 1.75MSPS, -40 to +85 degC, RU-24, Pb-Free, Reel; Part Number: AD7470; Manufacturer: Analog Devices; Resolution (Bits): 10; Channels: 1; Throughput Rate (SPS): 1.75M; Interface: Par; DatasheetVersion: Rev.B; PackageVersion: 2002; PackageReference: RU-24; PackageDescription: 24-Lead Thin Shrink Small Outline Package [TSSOP]; RoHS: Y; Packing: Reel; Mounting Technology: Surface Mount; Code_JEDEC: MO-153-AD; ComponentLink1Description: Manufacturer URL; ComponentLink1URL: http://www.analog.com/en/index.html; ComponentLink2Description: Datasheet; ComponentLink2URL: http://www.analog.com/static/imported-files/data_sheets/AD7470_7472.pdf; ComponentLink3Description: Package Specification; ComponentLink3URL: http://www.analog.com/static/imported-files/packages/380523655245964505593671154107510036154RU24.pdf; ComponentLink4Description: Product URL; ComponentLink4URL: http://www.analog.com/en/analog-to-digital-converters/ad-converters/ad7470/products/product.html
footprint RU-24_N (TSOP, 24-Leads, Body 7.8x4.4mm, Pitch 0.65mm, IPC Medium Density)
footprint RU-24_L (TSOP, 24-Leads, Body 7.8x4.4mm, Pitch 0.65mm, IPC High Density)
footprint RU-24_M (TSOP, 24-Leads, Body 7.8x4.4mm, Pitch 0.65mm, IPC Low Density)
pins: 1 DB7 (hiz) "Parallel digital outputs that provide the conversion result for the part. These are three-state outputs that are controlled by C\S\ and R\D\. The output high voltage level for these outputs is determined by the VDRIVE input.", 2 DB8 (hiz) "Parallel digital outputs that provide the conversion result for the part. These are three-state outputs that are controlled by C\S\ and R\D\. The output high voltage level for these outputs is determined by the VDRIVE input.", 3 DB9 (hiz) "Parallel digital outputs that provide the conversion result for the part. These are three-state outputs that are controlled by C\S\ and R\D\. The output high voltage level for these outputs is determined by the VDRIVE input.", 4 AVDD (power) "Analog Supply Voltage, 2.7 V to 5.25 V. This is the only supply voltage for all analog circuitry on the AD7472. The AVDD and DVDD voltages should ideally be at the same potential and must not be more than 0.3 V apart even on (See Datasheet)", 5 REF IN (in) "Reference Input. An external reference must be applied to this input. The voltage range for the external reference is 2.5 V +/-1% for specified performance.", 6 VIN (in) "Analog Input. Single-ended analog input channel. The input range is 0 V to REF IN. The analog input presents a high dc input impedance.", 7 AGND (power) "Analog Ground. Ground reference point for all analog circuitry on the AD7470/AD7472. All analog input signals and any external reference signal should be referred to this AGND voltage. The AGND and DGND voltages should (See Datasheet)", 8 ~{CS} (in) "Chip Select. Active low logic input used in conjunction with R\D\ to access the conversion result. The conversion result is placed on the data bus following the falling edge of both C\S\ and R\D\. C\S\ and R\D\ are both (See Datasheet)", 9 ~{RD} (in) "Read Input. Logic input used in conjunction with C\S\ to access the conversion result. The conversion result is placed on the data bus following the falling edge of both C\S\ and R\D\. C\S\ and R\D\ are both connected to (See Datasheet)", 10 ~{CONVST} (in) "Conversion Start Input. Logic input used to initiate conversion. The input track-and-hold amplifier goes from track mode to hold mode on the falling edge of C\O\N\V\S\T\, and the conversion process is initiated at this point.(See Datasheet)", 11 CLKIN (in) "Master Clock Input. The clock source for the conversion process is applied to this pin. Conversion time for the AD7472 takes 14 clock cycles, and conversion time for the AD7470 takes 12 clock cycles. The frequency of this (See Datasheet)", 12 BUSY (out) "BUSY Output. Logic output indicating the status of the conversion process. The BUSY signal goes high after the falling edge of C\O\N\V\S\T\ and stays high for the duration of conversion. Once conversion is complete and the (See Datasheet)", 13 NC "No connect", 14 NC "No connect", 15 DB0 (hiz) "Parallel digital outputs that provide the conversion result for the part. These are three-state outputs that are controlled by C\S\ and R\D\. The output high voltage level for these outputs is determined by the VDRIVE input.", 16 DB1 (hiz) "Parallel digital outputs that provide the conversion result for the part. These are three-state outputs that are controlled by C\S\ and R\D\. The output high voltage level for these outputs is determined by the VDRIVE input.", 17 DB2 (hiz) "Parallel digital outputs that provide the conversion result for the part. These are three-state outputs that are controlled by C\S\ and R\D\. The output high voltage level for these outputs is determined by the VDRIVE input.", 18 DB3 (hiz) "Parallel digital outputs that provide the conversion result for the part. These are three-state outputs that are controlled by C\S\ and R\D\. The output high voltage level for these outputs is determined by the VDRIVE input.", 19 DGND (power) "Digital Ground. This is the ground reference point for all digital circuitry on the AD7470 and AD7472. The DGND and AGND voltages should ideally be at the same potential and must not be more than 0.3 V apart even on a (See Datasheet)", 20 DVDD (power) "Digital Supply Voltage, 2.7 V to 5.25 V. This is the supply voltage for all digital circuitry on the AD7470/ AD7472 aside from the output drivers. The DVDD and AVDD voltages should ideally be at the same potential and must (See Datasheet)", 21 VDRIVE (power) "Supply Voltage for the Output Drivers, 2.7 V to 5.25 V. This voltage determines the output high voltage for the data output pins. It allows AVDD and DVDD to operate at 5 V (and maximize the dynamic performance of the (ADC), (See Datasheet)", 22 DB4 (hiz) "Parallel digital outputs that provide the conversion result for the part. These are three-state outputs that are controlled by C\S\ and R\D\. The output high voltage level for these outputs is determined by the VDRIVE input.", 23 DB5 (hiz) "Parallel digital outputs that provide the conversion result for the part. These are three-state outputs that are controlled by C\S\ and R\D\. The output high voltage level for these outputs is determined by the VDRIVE input.", 24 DB6 (hiz) "Parallel digital outputs that provide the conversion result for the part. These are three-state outputs that are controlled by C\S\ and R\D\. The output high voltage level for these outputs is determined by the VDRIVE input."